# Altium footprint library WE-PD2_3521.PcbLib: 1 footprints
Each footprint in its own frame and in the unit in brackets; x right, y up, seen from the top. Pads: shape width x height; smd on the part's side, far side on the other; paste and mask are expansions set on the pad; w line width, h text height; cw(c..) or ccw(c..) is an arc to the next point about the centre after c.
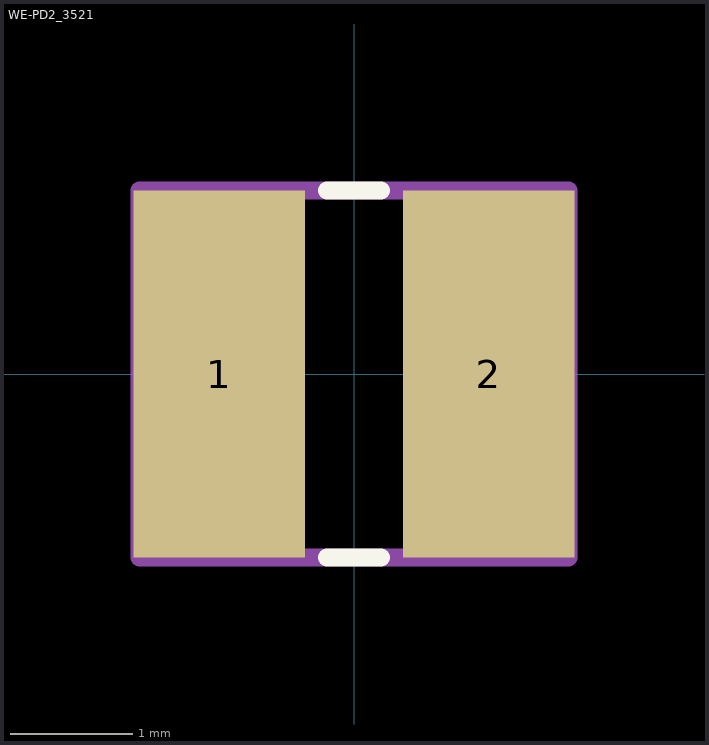
[diagram p0: the footprint, top view; thin cyan lines are the x and y axes]

## WE-PD2_3521 [mm] "SMD Power Inductor, size 3521, body 3x3.5mm"
height 2.1
pads (2):
  rect 1.4x3 smd: 1(-1.1,0) 2(1.1,0)
Top Overlay:
  lines w0.15: -0.22,-1.5 0.22,-1.5 ; -0.22,1.5 0.22,1.5
Mechanical 13:
  lines w0.15: -1.75,-1.5 1.75,-1.5 1.75,1.5 -1.75,1.5 -1.75,-1.5
3D body "IndPD2_3521_7447732xxx.stp": height 2.1, standoff 0, extent -1.668,-1.5 1.668,1.5